# Altium schematic symbol library SCH - DIGITAL POT - MICROCHIP MCP44X1 POT TSSOP.SCHLIB: 1 symbol
Pins are listed as number, name and electrical type; pins without a type are passive.

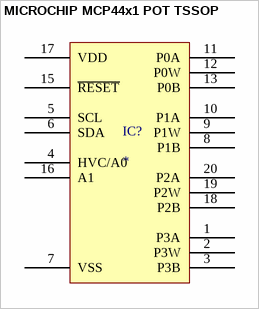
[diagram p0: symbol MICROCHIP MCP44x1 POT TSSOP]

## MICROCHIP MCP44x1 POT TSSOP
designator IC?
pins: 1 P3A, 2 P3W, 3 P3B, 4 HVC/A0, 5 SCL, 6 SDA, 7 VSS, 8 P1B, 9 P1W, 10 P1A, 11 P0A, 12 P0W, 13 P0B, 15 ~{RESET}, 16 A1, 17 VDD, 18 P2B, 19 P2W, 20 P2A